# Altium footprint library CAP 25V.PcbLib: 1 footprints
Each footprint in its own frame and in the unit in brackets; x right, y up, seen from the top. Pads: shape width x height; smd on the part's side, far side on the other; paste and mask are expansions set on the pad; w line width, h text height; cw(c..) or ccw(c..) is an arc to the next point about the centre after c.
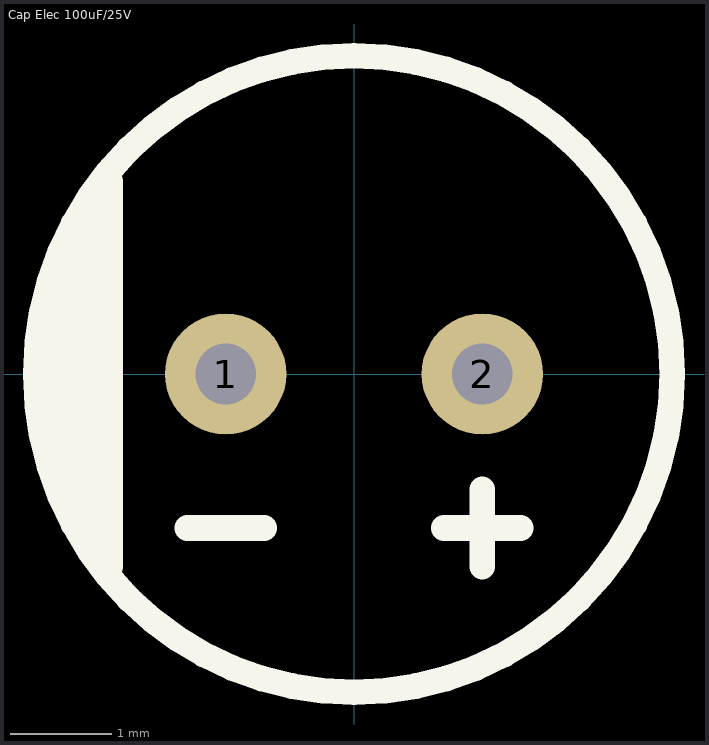
[diagram p0: the footprint, top view; thin cyan lines are the x and y axes]

## Cap Elec 100uF/25V [mm] "100µF 25V Aluminum Electrolytic Capacitors Radial, Can  5000 Hrs @ 105°C"
pads (2):
  round 1.2 hole 0.6: 1(-1.27,0) 2(1.27,0)
Top Overlay:
  circle w0.254: c0,0 r3.15
  lines w0.254: -2.921,1.143 -2.921,-1.016 -2.794,-1.143 -2.794,1.27 ; -2.667,-1.524 -2.667,1.524 -2.54,1.651 -2.54,-1.778 ; -2.413,-1.905 -2.413,1.905 ; -1.651,-1.524 -0.889,-1.524 ; 0.889,-1.524 1.651,-1.524 ; 1.27,-1.905 1.27,-1.143
3D body "User Library-Cap-EL(6_3x11-2_5).step": height 11, standoff -3.2, extent -3.152,-3.149 3.15,3.149